# Altium footprint library power.PcbLib: 12 footprints
Each footprint in its own frame and in the unit in brackets; x right, y up, seen from the top. Pads: shape width x height; smd on the part's side, far side on the other; paste and mask are expansions set on the pad; w line width, h text height; cw(c..) or ccw(c..) is an arc to the next point about the centre after c.
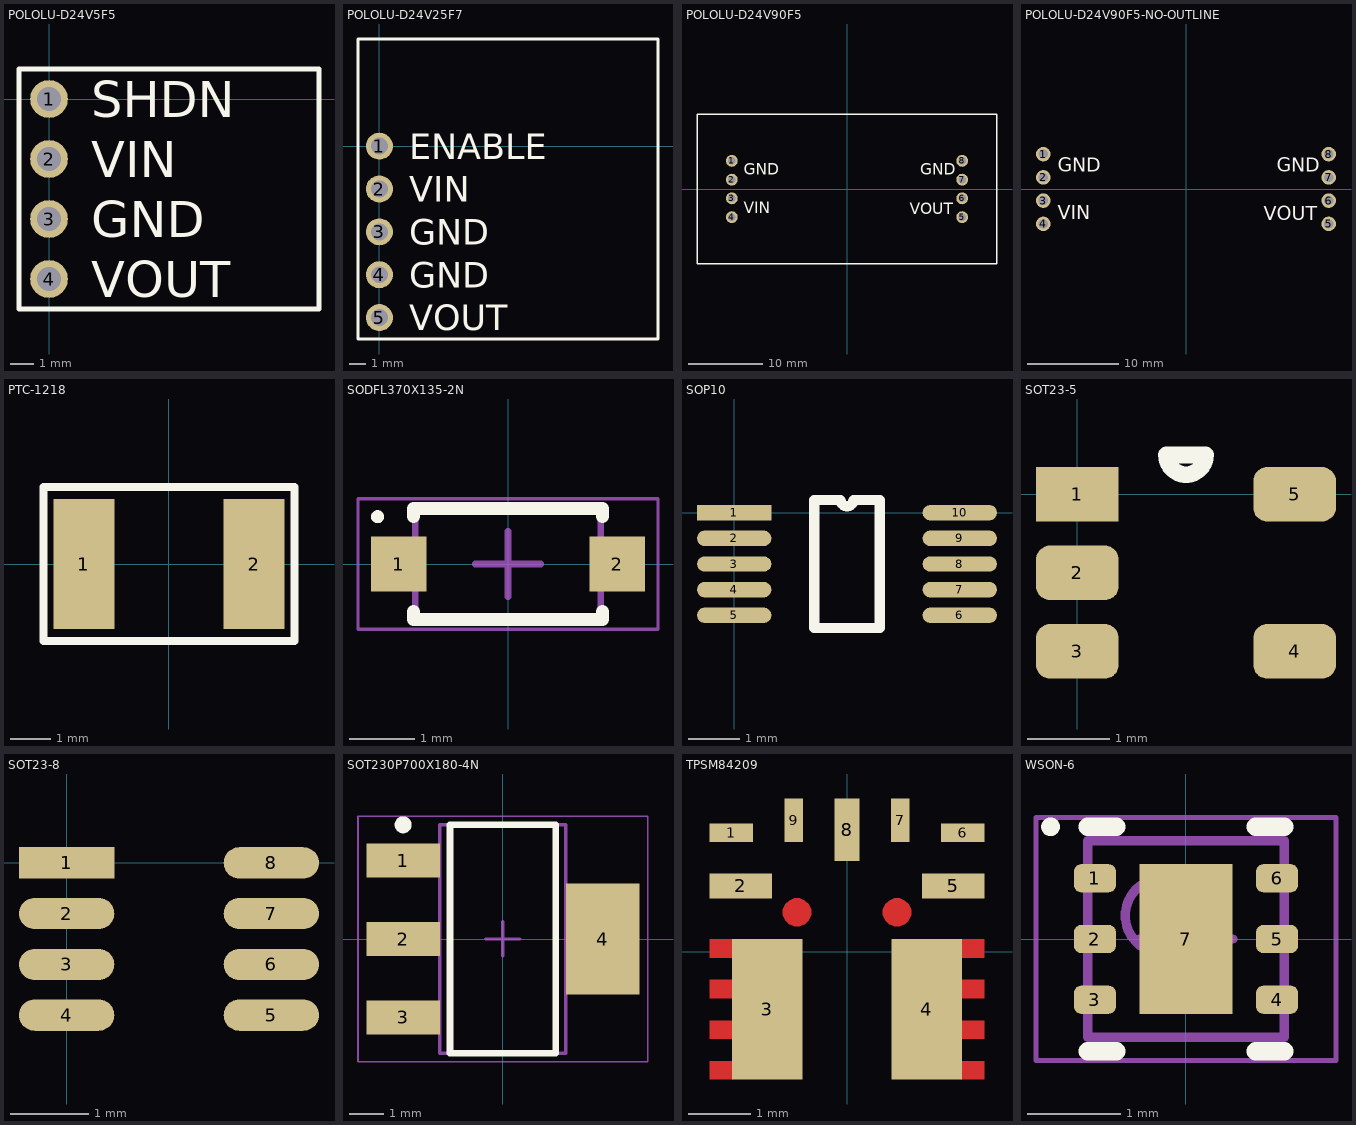
[diagram p0: the footprints below, top view; thin cyan lines are the x and y axes]

## POLOLU-D24V5F5 [mm]
pads (4):
  round 1.6 hole 1 unplated: 1(0,0) 2(0,-2.54) 3(0,-5.08) 4(0,-7.62)
Top Overlay:
  lines w0.2: -1.27,-8.89 -1.27,1.27 11.43,1.27 11.43,-8.89 -1.27,-8.89
  text "GND" at 1.778,-5.842 h1.52
  text "SHDN" at 1.778,-0.762 h1.52
  text "VIN" at 1.778,-3.302 h1.52
  text "VOUT" at 1.778,-8.382 h1.52

## POLOLU-D24V25F7 [mm]
pads (5):
  round 1.6 hole 1 unplated: 1(0,0) 2(0,-2.54) 3(0,-5.08) 4(0,-7.62) 5(0,-10.16)
Top Overlay:
  lines w0.2: -1.27,-11.43 16.51,-11.43 16.51,6.35 -1.27,6.35 -1.27,-11.43
  text "VOUT" at 1.778,-10.922 h1.52
  text "GND" at 1.778,-8.382 h1.52
  text "VIN" at 1.778,-3.302 h1.52
  text "ENABLE" at 1.778,-0.762 h1.52
  text "GND" at 1.778,-5.842 h1.52

## POLOLU-D24V90F5 [mm]
pads (8):
  round 1.6 hole 1 unplated: 1(-15.6,3.81) 2(-15.6,1.27) 3(-15.6,-1.27) 4(-15.6,-3.81) 5(15.6,-3.81) 6(15.6,-1.27) 7(15.6,1.27) 8(15.6,3.81)
Top Overlay:
  lines w0.2: -20.32,-10.16 -20.32,10.16 20.32,10.16 20.32,-10.16 -20.32,-10.16
  text "GND" at -14,1.9 h1.52
  text "GND" at 9.9,1.9 h1.52
  text "VIN" at -14,-3.3 h1.52
  text "VOUT" at 8.5,-3.4 h1.52

## POLOLU-D24V90F5-NO-OUTLINE [mm]
pads (8):
  round 1.6 hole 1 unplated: 1(-15.6,3.81) 2(-15.6,1.27) 3(-15.6,-1.27) 4(-15.6,-3.81) 5(15.6,-3.81) 6(15.6,-1.27) 7(15.6,1.27) 8(15.6,3.81)
Top Overlay:
  text "GND" at -14,1.9 h1.52
  text "GND" at 9.9,1.9 h1.52
  text "VIN" at -14,-3.3 h1.52
  text "VOUT" at 8.5,-3.4 h1.52

## PTC-1218 [mm]
pads (2):
  rect 1.5x3.2 smd: 1(-2.1,0) 2(2.1,0)
Top Overlay:
  lines w0.2: -3.1,-1.9 3.1,-1.9 3.1,-0.6 3.1,0.6 3.1,1.9 -3.1,1.9 -3.1,0.35 -3.1,-1.9

## SODFL370X135-2N [mm] "SODFL, 2-Leads, Body 1,55x3,70mm, IPC Medium Density"
height 1.35
pads (2):
  rect 0.85x0.85 smd: 1(-1.675,0) 2(1.675,0)
Top Overlay:
  circle w0.1: c-2,0.725 r0.05
  lines w0.2: -1.45,-0.725 -1.45,-0.85 1.45,-0.85 1.45,-0.725 ; -1.45,0.725 -1.45,0.85 1.45,0.85 1.45,0.725
Mechanical 13:
  lines w0.1: -1.425,-0.85 -1.425,0.85 1.425,0.85 1.425,-0.85 -1.425,-0.85
Mechanical 15:
  lines w0.05: -2.3,-1 -2.3,1 2.3,1 2.3,-1 -2.3,-1
  lines w0.1: -0.5,0 0.5,0 ; 0,-0.5 0,0.5
3D body: height 1.35, standoff 0, extent -1.425,-0.85 1.425,0.85

## SOP10 [mm]
pads (10):
  rect 1.45x0.3 smd: 1(0,0)
  oval 1.45x0.3 smd: 2(0,-0.5) 3(0,-1) 4(0,-1.5) 5(0,-2) 6(4.4,-2) 7(4.4,-1.5) 8(4.4,-1) 9(4.4,-0.5) 10(4.4,0)
Top Overlay:
  lines w0.2: 1.56,-2.25 2.84,-2.25 2.84,0.25 2.325,0.25 cw(c2.2,0.25) 2.075,0.25 1.56,0.25 1.56,-2.25
3D body "User Library-msop-10.step": height 1.15, standoff 0, extent -0.275,-2.5 4.625,0.5

## SOT23-5 [mm]
height 1.2
pads (5):
  rect 1x0.66 smd: 1(0,0)
  rrect50% 1x0.66 smd: 2(0,-0.95) 3(0,-1.9) 4(2.63,-1.9) 5(2.63,0)
Top Overlay:
  lines w0.2: 1.295,0.475 1.552,0.475 cw(c1.315,0.475) 1.077,0.475 1.335,0.475
3D body "CircuitWorks-SOT-23-5.step": height 1.11, standoff 0.01, extent 0.1,-2.475 2.6,0.525

## SOT23-8 [mm]
pads (8):
  rect 1.22x0.4 smd: 1(0,0)
  oval 1.22x0.4 smd: 2(0,-0.65) 3(0,-1.3) 4(0,-1.95) 5(2.62,-1.95) 6(2.62,-1.3) 7(2.62,-0.65) 8(2.62,0)
3D body "SOT238.step": height 1.2, standoff 0, extent -0.09,-2.465 2.71,0.475

## SOT230P700X180-4N [mm] "SOT223, 4-Leads, Body 6,50x7,00mm (avg), Pitch 2,30mm, IPC Medium Density"
height 1.8
pads (4):
  rect 2.15x1 smd: 1(-2.925,2.3) 2(-2.925,0) 3(-2.925,-2.3)
  rect 2.15x3.25 smd: 4(2.925,0)
Top Overlay:
  circle w0.25: c-2.925,3.35 r0.125
  lines w0.2: -1.55,-3.35 -1.55,3.35 1.55,3.35 1.55,-3.35 -1.55,-3.35
Mechanical 13:
  lines w0.1: -1.85,-3.35 -1.85,3.35 1.85,3.35 1.85,-3.35 -1.85,-3.35
Mechanical 15:
  lines w0.05: -4.25,-3.6 -4.25,3.6 4.25,3.6 4.25,-3.6 -4.25,-3.6
  lines w0.1: -0.5,0 0.5,0 ; 0,-0.5 0,0.5
3D body: height 1.8, standoff 0.02, extent -1.85,-3.35 1.85,3.35

## TPSM84209 [mm]
pads (9):
  rect 0.7x0.3 smd: 1(-1.85,1.9) 6(1.85,1.9)
  rect 1x0.4 smd: 2(-1.7,1.05) 5(1.7,1.05)
  rect 1.125x2.25 smd: 3(-1.275,-0.925) 4(1.275,-0.925)
  rect 0.3x0.7 smd: 7(0.85,2.1) 9(-0.85,2.1)
  rect 0.4x1 smd: 8(0,1.95)
Top Layer:
  region: -1.825,-1.1 -2.2,-1.1 -2.2,-1.4 -1.825,-1.4
  region: -1.825,0.2 -2.2,0.2 -2.2,-0.1 -1.825,-0.1
  region: -1.825,-0.45 -2.2,-0.45 -2.2,-0.75 -1.825,-0.75
  region: -1.825,-1.75 -2.2,-1.75 -2.2,-2.05 -1.825,-2.05
  rectangle: 1.825,-0.1 2.2,0.2
  rectangle: 1.825,-1.4 2.2,-1.1
  rectangle: 1.825,-2.05 2.2,-1.75
  rectangle: 1.825,-0.75 2.2,-0.45
  pour cut-out: -1.025,0.625 -1.025,0.67 -0.991,0.752 -0.927,0.816 -0.845,0.85 -0.8,0.85 -0.755,0.85 -0.673,0.816 -0.609,0.752 -0.575,0.67 -0.575,0.625 -0.575,0.58 -0.609,0.498 -0.673,0.434 -0.755,0.4 -0.8,0.4 -0.845,0.4 -0.927,0.434 -0.991,0.498 -1.025,0.58
  pour cut-out: 0.075,1.025
  pour cut-out: 0.575,0.625 0.575,0.67 0.609,0.752 0.673,0.816 0.755,0.85 0.8,0.85 0.845,0.85 0.927,0.816 0.991,0.752 1.025,0.67 1.025,0.625 1.025,0.58 0.991,0.498 0.927,0.434 0.845,0.4 0.8,0.4 0.755,0.4 0.673,0.434 0.609,0.498 0.575,0.58
3D body: height 2.1, standoff 0, extent -2,-2.25 2,2.25

## WSON-6 [mm] "SON, 6-Leads, Body 2,00x2,00mm, Pitch 0,65mm, Thermal Pad 1,60x1mm, IPC Medium Density"
height 0.8
pads (7):
  rrect50% 0.45x0.3 smd: 1(-0.975,0.65) 2(-0.975,0) 3(-0.975,-0.65) 4(0.975,-0.65) 5(0.975,0) 6(0.975,0.65)
  rect 1x1.6 smd: 7(0,0)
Top Overlay:
  circle w0.1: c-1.45,1.2 r0.05
  lines w0.2: -1.05,-1.2 -0.745,-1.2 ; -1.05,1.2 -0.745,1.2 ; 0.745,-1.2 1.05,-1.2 ; 0.745,1.2 1.05,1.2
Mechanical 13:
  circle w0.1: c-0.25,0.25 r0.4
  lines w0.1: -1.05,-1.05 -1.05,1.05 1.05,1.05 1.05,-1.05 -1.05,-1.05
Mechanical 15:
  lines w0.05: -1.605,-1.3 -1.605,1.3 1.605,1.3 1.605,-1.3 -1.605,-1.3
  lines w0.1: -0.5,0 0.5,0 ; 0,-0.5 0,0.5
3D body "User Library-wson6-drv.STEP": height 0.8, standoff 0, extent -1.01,-1 1.01,1